# Altium footprint library HardWare.PcbLib: 173 footprints (part 7 of 11)
Each footprint in its own frame and in the unit in brackets; x right, y up, seen from the top. Pads: shape width x height; smd on the part's side, far side on the other; paste and mask are expansions set on the pad; w line width, h text height; cw(c..) or ccw(c..) is an arc to the next point about the centre after c.
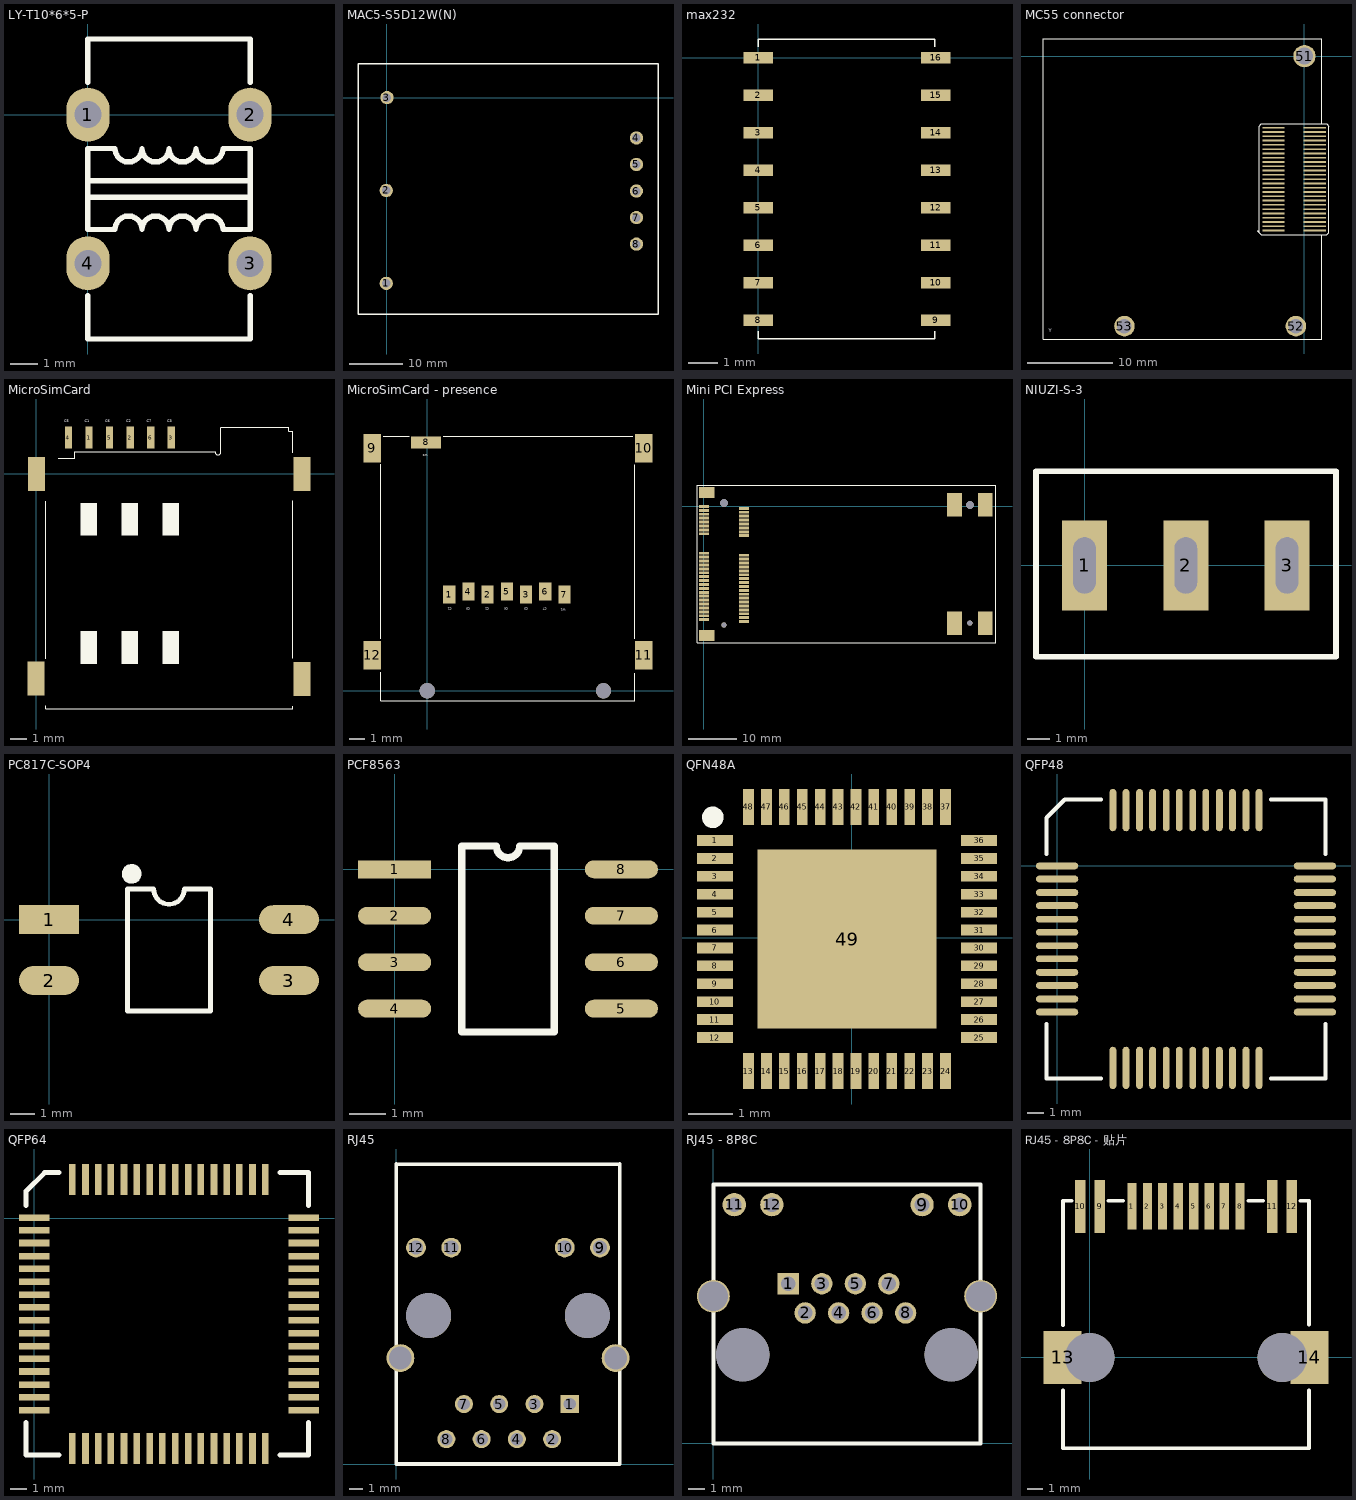
[diagram p6: the footprints below, top view; thin cyan lines are the x and y axes]

## LY-T10*6*5-P [mm]
height 1.75
pads (4):
  oval 1.6x2 hole 1: 1(0,0) 2(6,0) 3(6,-5.5) 4(0,-5.5)
Top Overlay:
  lines w0.2: 0,-6.7 0,-8.3 6,-8.3 6,-6.7 ; 0,-3.05 6,-3.05 ; 0,-2.45 6,-2.45 ; 0,1.2 0,2.8 6,2.8 6,1.2 ; 0,-4.25 1,-4.25 cw(c1.5,-4.25) 2,-4.25 cw(c2.5,-4.25) 3,-4.25 cw(c3.5,-4.25) 4,-4.25 cw(c4.5,-4.25) 5,-4.25 6,-4.25 6,-1.25 5,-1.25 cw(c4.5,-1.25) 4,-1.25 cw(c3.5,-1.25) 3,-1.25 cw(c2.5,-1.25) 2,-1.25 cw(c1.5,-1.25) 1,-1.25 0,-1.25 0,-4.25

## MAC5-S5D12W(N) [mm] "220V IN, 5V,+-12V OUT(5W)"
height 1.75
pads (8):
  round 2.5 hole 1.6: 1(-0.127,-34.925) 2(-0.127,-17.425) 3(0,0.075) 4(47,-7.526) 5(47,-12.526) 6(46.99,-17.526) 7(47,-22.526) 8(47,-27.526)
Top Overlay:
  lines w0.254: -5.461,2.286 -5.461,6.477 51.054,6.477 51.054,-40.767 -5.461,-40.767 -5.461,2.667

## max232 [mm] "R-PDSO-G16"
pads (16):
  rect 1x0.4 smd: 1(0,0) 2(0,-1.27) 3(0,-2.54) 4(0,-3.81) 5(0,-5.08) 6(0,-6.35) 7(0,-7.62) 8(0,-8.89) 9(6,-8.89) 10(6,-7.62) 11(6,-6.35) 12(6,-5.08) 13(6,-3.81) 14(6,-2.54) 15(6,-1.27) 16(6,0)
Top Overlay:
  lines w0.051: 0,-9.271 0,-9.525 3.048,-9.525 5.969,-9.525 5.969,-9.271 ; 0,0.381 0,0.635 5.08,0.635 5.969,0.635 5.969,0.381
  text "." at -0.508,0.508 h1.78

## MC55 connector [mm]
pads (53):
  rect 2.6x0.205 smd: 1(-3.616,-20.35) 2(-3.616,-19.85) 3(-3.616,-19.35) 4(-3.616,-18.85) 5(-3.616,-18.35) 6(-3.616,-17.85) 7(-3.616,-17.35) 8(-3.616,-16.85) 9(-3.616,-16.35) 10(-3.616,-15.85) 11(-3.616,-15.35) 12(-3.616,-14.85) 13(-3.616,-14.35) 14(-3.616,-13.85) 15(-3.616,-13.35) 16(-3.616,-12.85) 17(-3.616,-12.35) 18(-3.616,-11.85) 19(-3.616,-11.35) 20(-3.616,-10.85) 21(-3.616,-10.35) 22(-3.616,-9.85) 23(-3.616,-9.35) 24(-3.616,-8.85) 25(-3.616,-8.35) 26(1.204,-8.35) 27(1.204,-8.85) 28(1.204,-9.35) 29(1.204,-9.85) 30(1.204,-10.35) 31(1.204,-10.85) 32(1.204,-11.35) 33(1.204,-11.85) 34(1.204,-12.35) 35(1.204,-12.85) 36(1.204,-13.35) 37(1.204,-13.85) 38(1.204,-14.35) 39(1.204,-14.85) 40(1.204,-15.35) 41(1.204,-15.85) 42(1.204,-16.35) 43(1.204,-16.85) 44(1.204,-17.35) 45(1.204,-17.85) 46(1.204,-18.35) 47(1.204,-18.85) 48(1.204,-19.35) 49(1.204,-19.85) 50(1.204,-20.35)
  round 2.6 hole 2: 51(0,0)
  round 2.4 hole 1.7: 52(-1,-31.5) 53(-21,-31.5)
Top Overlay:
  lines w0.051: -5.458,-20.413 -5.394,-20.35 ; 2,-7.904 2,-6.75 2,2 -30.5,2 -30.5,-33 2.032,-33 2.032,-24.218 2.032,-20.858 ; -5.394,-20.35 -5.394,-20.477 -5.521,-20.35 -5.394,-20.35 ; -5.267,-20.604 -5.013,-20.858 2.607,-20.858 2.861,-20.604 2.861,-8.158 2.607,-7.904 -5.013,-7.904 -5.267,-8.158 -5.267,-20.604
  text "Y" at -29.845,-32.385 h0.76

## MicroSimCard [mm]
pads (10):
  rect 0.45x1.35 smd: 1(3.251,2.235) 2(5.791,2.235) 3(8.331,2.235) 4(1.981,2.235) 5(4.521,2.235) 6(7.061,2.235)
  rect 1.05x2.1 smd: ""(-0.025,-12.649) ""(0,0) ""(16.408,-12.675) ""(16.408,0)
Top Overlay:
  rectangle: 2.718,-3.824 3.734,-1.792
  rectangle: 7.798,-3.824 8.814,-1.792
  rectangle: 5.258,-3.824 6.274,-1.792
  rectangle: 5.258,-11.744 6.274,-9.712
  rectangle: 7.798,-11.744 8.814,-9.712
  rectangle: 2.718,-11.744 3.734,-9.712
  lines w0.051: 0.584,-14.326 0.584,-14.529 15.824,-14.529 15.824,-14.351 ; 0.584,-11.43 0.584,-1.702 ; 1.346,0.965 2.362,0.965 2.362,1.346 11.039,1.346 ccw(c11.219,1.346) 11.398,1.346 11.398,2.848 11.42,2.87 15.596,2.87 15.596,2.616 15.85,2.616 15.85,1.295 ; 15.824,-11.405 15.824,-1.676
  text "C3" at 8.077,3.124 h0.25
  text "C7" at 6.807,3.126 h0.25
  text "C2" at 5.537,3.126 h0.25
  text "C6" at 4.267,3.124 h0.25
  text "C1" at 2.997,3.124 h0.25
  text "C5" at 1.727,3.124 h0.25

## MicroSimCard - presence [mm] "带插拔卡检测"
pads (14):
  rect 0.8x1.2 smd: 1(1.46,6.37) 2(4,6.37) 3(6.54,6.37) 4(2.73,6.57) 5(5.27,6.57) 6(7.81,6.57) 7(9.08,6.37)
  rect 2x0.8 smd: 8(-0.08,16.43)
  rect 1.15x1.9 smd: 9(-3.63,16.05) 10(14.32,16.05) 11(14.32,2.35) 12(-3.63,2.35)
  round 1.01 hole 1: ""(0,0) ""(11.66,0)
Top Overlay:
  lines w0.051: -3.06,1.219 -3.06,-0.65 13.74,-0.65 13.74,1.168 ; -3.06,3.454 -3.06,14.986 ; -2.921,16.85 -1.197,16.85 ; 1.053,16.85 13.614,16.85 ; 13.74,3.454 13.74,14.961
  text "C3" at 6.68,5.562 h0.25
  text "C7" at 7.912,5.562 h0.25
  text "C2" at 4.102,5.562 h0.25
  text "C6" at 5.372,5.562 h0.25
  text "C1" at 1.613,5.562 h0.25
  text "C5" at 2.857,5.562 h0.25
  text "W1" at 9.156,5.511 h0.25
  text "W2" at 0.025,15.723 h0.25

## Mini PCI Express [mm]
pads (62):
  rect 2x0.6 smd: 1(0,0) 2(8.2,-0.4) 3(0,-0.8) 4(8.2,-1.2) 5(0,-1.6) 6(8.2,-2) 7(0,-2.4) 8(8.2,-2.8) 9(0,-3.2) 10(8.2,-3.6) 11(0,-4) 12(8.2,-4.4) 13(0,-4.8) 14(8.2,-5.2) 15(0,-5.6) 16(8.2,-6) 17(0,-9.6) 18(8.2,-10) 19(0,-10.4) 20(8.2,-10.8) 21(0,-11.2) 22(8.2,-11.6) 23(0,-12) 24(8.2,-12.4) 25(0,-12.8) 26(8.2,-13.2) 27(0,-13.6) 28(8.2,-14) 29(0,-14.4) 30(8.2,-14.8) 31(0,-15.2) 32(8.2,-15.6) 33(0,-16) 34(8.2,-16.4) 35(0,-16.8) 36(8.2,-17.2) 37(0,-17.6) 38(8.2,-18) 39(0,-18.4) 40(8.2,-18.8) 41(0,-19.2) 42(8.2,-19.6) 43(0,-20) 44(8.2,-20.4) 45(0,-20.8) 46(8.2,-21.2) 47(0,-21.6) 48(8.2,-22) 49(0,-22.4) 50(8.2,-22.8) 51(0,-23.2) 52(8.2,-23.6)
  rect 3.2x2.3 smd: ""(0.6,-26.45) ""(0.6,2.85)
  round 1.05 hole 1.1: ""(4.1,-24.3) ""(54.5,-23.9)
  round 1.55 hole 1.6: ""(4.1,0.7) ""(54.5,0.3)
  rect 3x4.8 smd: ""(51.35,-23.9) ""(51.35,0.3) ""(57.65,-23.9) ""(57.65,0.3)
Top Overlay:
  lines w0.1: -1.424,-27.951 59.834,-27.951 59.834,4.307 -1.424,4.307 -1.424,-27.951

## NIUZI-S-3 [mm] "纽子开关-三脚两档"
pads (3):
  rect 2x4 hole 1 slot 2.5 at 90 deg: 1(0,0) 2(4.5,0) 3(9,0)
Top Overlay:
  lines w0.254: -2.159,-4.064 -2.159,4.191 11.176,4.191 11.176,-4.064 -2.159,-4.064

## PC817C-SOP4 [mm]
pads (4):
  rect 2.5x1.2 smd: 1(0,0)
  oval 2.5x1.2 smd: 2(0,-2.54) 3(10,-2.54) 4(10,0)
Top Overlay:
  circle w0.254: c3.446,1.905 r0.284
  rectangle: 3.222,1.651 3.603,2.159
  lines w0.2: 3.275,-3.81 6.725,-3.81 6.725,1.27 5.635,1.27 cw(c5,1.27) 4.365,1.27 3.275,1.27 3.275,-3.81

## PCF8563 [mm]
pads (8):
  rect 2x0.49 smd: 1(0,0)
  oval 2x0.49 smd: 2(0,-1.27) 3(0,-2.54) 4(0,-3.81) 5(6.2,-3.81) 6(6.2,-2.54) 7(6.2,-1.27) 8(6.2,0)
Top Overlay:
  lines w0.2: 1.835,-4.445 1.835,0.635 2.782,0.635 ccw(c3.1,0.635) 3.417,0.635 4.365,0.635 4.365,-4.445 1.835,-4.445

## QFN48A [mil]
pads (49):
  rect 31.5x9.44 smd: 1(-120.14,85.61) 2(-120.14,69.87) 3(-120.14,54.12) 4(-120.14,38.37) 5(-120.14,22.62) 6(-120.14,6.87) 7(-120.14,-8.87) 8(-120.14,-24.62) 9(-120.14,-40.37) 10(-120.14,-56.12) 11(-120.14,-71.87) 12(-120.14,-87.61) 25(112.14,-87.61) 26(112.14,-71.87) 27(112.14,-56.12) 28(112.14,-40.37) 29(112.14,-24.62) 30(112.14,-8.87) 31(112.14,6.87) 32(112.14,22.62) 33(112.14,38.37) 34(112.14,54.12) 35(112.14,69.87) 36(112.14,85.61)
  rect 9.44x31.5 smd: 13(-90.61,-117.14) 14(-74.87,-117.14) 15(-59.12,-117.14) 16(-43.37,-117.14) 17(-27.62,-117.14) 18(-11.87,-117.14) 19(3.87,-117.14) 20(19.62,-117.14) 21(35.37,-117.14) 22(51.12,-117.14) 23(66.87,-117.14) 24(82.61,-117.14) 37(82.61,115.14) 38(66.87,115.14) 39(51.12,115.14) 40(35.37,115.14) 41(19.62,115.14) 42(3.87,115.14) 43(-11.87,115.14) 44(-27.62,115.14) 45(-43.37,115.14) 46(-59.12,115.14) 47(-74.87,115.14) 48(-90.61,115.14)
  rect 157.48x157.48 smd: 49(-4,-1)
Top Overlay:
  lines w10: -117.76,107.41 ccw(c-122,106) -117.56,106.55

## QFP48 [mil]
pads (48):
  oval 100x16 smd: 1(0,0) 2(0,-31) 3(0,-63) 4(0,-94) 5(0,-126) 6(0,-157) 7(0,-189) 8(0,-220) 9(0,-252) 10(0,-283) 11(0,-315) 12(0,-346) 25(610,-346) 26(610,-315) 27(610,-283) 28(610,-252) 29(610,-220) 30(610,-189) 31(610,-157) 32(610,-126) 33(610,-94) 34(610,-63) 35(610,-31) 36(610,0)
  oval 16x100 smd: 13(132,-478) 14(163,-478) 15(195,-478) 16(226,-478) 17(258,-478) 18(289,-478) 19(321,-478) 20(352,-478) 21(384,-478) 22(415,-478) 23(447,-478) 24(478,-478) 37(478,132) 38(447,132) 39(415,132) 40(384,132) 41(352,132) 42(321,132) 43(289,132) 44(258,132) 45(226,132) 46(195,132) 47(163,132) 48(132,132)
Top Overlay:
  lines w10: -25,-374 -25,-503 104,-503 ; -25,28 -25,114 18,157 104,157 ; 506,-503 635,-503 635,-374 ; 506,157 635,157 635,28

## QFP64 [mil]
pads (64):
  rect 75x16 smd: 1(0,1) 2(0,-30) 3(0,-61) 4(0,-93) 5(0,-124) 6(0,-156) 7(0,-187) 8(0,-218) 9(0,-250) 10(0,-281) 11(0,-313) 12(0,-344) 13(0,-375) 14(0,-407) 15(0,-438) 16(0,-470) 33(658,-470) 34(658,-438) 35(658,-407) 36(658,-375) 37(658,-344) 38(658,-313) 39(658,-281) 40(658,-250) 41(658,-218) 42(658,-187) 43(658,-156) 44(658,-124) 45(658,-93) 46(658,-61) 47(658,-30) 48(658,1)
  rect 16x75 smd: 17(93,-563) 18(125,-563) 19(156,-563) 20(187,-563) 21(219,-563) 22(250,-563) 23(282,-563) 24(313,-563) 25(344,-563) 26(376,-563) 27(407,-563) 28(439,-563) 29(470,-563) 30(501,-563) 31(533,-563) 32(564,-563) 49(564,94) 50(533,94) 51(501,94) 52(470,94) 53(439,94) 54(407,94) 55(376,94) 56(344,94) 57(313,94) 58(282,94) 59(250,94) 60(219,94) 61(187,94) 62(156,94) 63(125,94) 64(93,94)
Top Overlay:
  lines w12: -20,-499 -20,-579 60,-579 ; -20,31 -20,66 25,111 60,111 ; 600,-579 670,-579 670,-499 ; 600,111 670,111 670,31

## RJ45 [mm] "HR911105"
pads (16):
  rect 1.3x1.3 hole 0.89: 1(12.497,4.318)
  round 1.3 hole 0.89: 2(11.23,1.79) 3(9.957,4.318) 4(8.69,1.79) 5(7.417,4.318) 6(6.15,1.79) 7(4.877,4.318) 8(3.61,1.79)
  round 1.42 hole 1.02: 9(14.675,15.58) 10(12.135,15.58) 11(3.965,15.58) 12(1.425,15.58)
  round 2 hole 1.63: ""(0.305,7.63) ""(15.795,7.63)
  round 3.24 hole 3.25: ""(2.335,10.68) ""(13.765,10.68)
Top Overlay:
  lines w0.254: 0,0 16.1,0 16.1,21.6 16.088,21.59 0.011,21.59 0,21.6 0,0

## RJ45 - 8P8C [mm] "无网络变压器"
pads (16):
  rect 1.3x1.3 hole 0.89: 1(4.56,9.72)
  round 1.3 hole 0.89: 2(5.579,7.94) 3(6.6,9.72) 4(7.619,7.94) 5(8.64,9.72) 6(9.659,7.94) 7(10.68,9.72) 8(11.699,7.94)
  round 1.42 hole 0.9: 9(12.7,14.53) 10(14.99,14.53) 11(1.27,14.53) 12(3.56,14.53)
  round 2 hole 1.8: ""(0,8.96) ""(16.26,8.96)
  round 3.24 hole 3.25: ""(1.78,5.4) ""(14.48,5.4)
Top Overlay:
  lines w0.254: 0,15.75 0,0 16.26,0 16.26,15.748 ; 0.011,15.75 16.26,15.75

## RJ45 - 8P8C - 贴片 [mm] "无网络变压器"
height 13.45
pads (16):
  rect 0.61x3.05 smd: 1(2.78,9.98) 2(3.8,9.98) 3(4.8,9.98) 4(5.84,9.98) 5(6.86,9.98) 6(7.88,9.98) 7(8.88,9.98) 8(9.92,9.98)
  rect 0.7x3.5 smd: 9(0.645,9.98) 10(-0.625,9.98) 11(12.055,9.98) 12(13.325,9.98)
  rect 2.5x3.5 smd: 13(-1.804,0) 14(14.504,0)
  round 3.24 hole 3.25: ""(0,0) ""(12.7,0)
Top Overlay:
  lines w0.254: -1.78,-2.177 -1.78,-5.99 14.48,-5.99 14.48,-2.186 ; -1.78,2.147 -1.78,10.35 ; -1.769,10.35 -1.219,10.35 ; 1.245,10.35 2.2,10.35 ; 10.465,10.35 11.445,10.35 ; 13.919,10.35 14.48,10.35 ; 14.48,2.163 14.48,10.348